# Altium schematic symbol library PMDXB600UNE.SchLib: 1 symbol
Pins are listed as number, name and electrical type; pins without a type are passive.

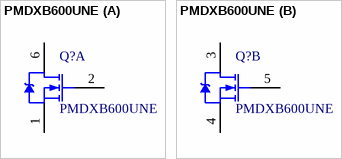
[diagram p0: symbol PMDXB600UNE]

## PMDXB600UNE
designator Q?
Dual N Channel Field Effect Transistor
footprint SON35P100X40-6N (SON, 6-Leads, Body 1,10x1,00mm, Pitch 0,35mm, IPC Medium Density)
part A pins: 1 S, 2 G, 6 D
part B pins: 3 D, 4 S, 5 G